# EAGLE library part MCP2562 (library SW_Communications)
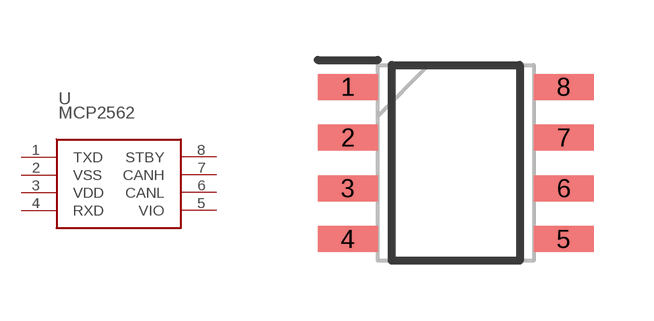
[diagram p5: symbol with the pads of SOIC-8; footprint SOIC-8]

Designator prefix U

## MCP2562 (CATEGORY: Communications; DESCRIPTION: 8Mbps CAN Flex. Data Transceiver SOIC8 Microchip MCP2562FD-E/SN, CAN Transceiver 2 Mbit/s, 5 Mbit/s, 8 Mbit/s 1-channel ISO 11898-2, ISO 11898-5, 8-Pin SOIC; MFGS: Microchip Technology; MPNS: MCP2562FD-E/SN; PACKAGE: SOIC-8; PART_NUMBER: MCP2562FD-E/SN; SW_PART_NUMBER: SW0000865)  [SOIC-8]
1  TXD
2  VSS
3  VDD
4  RXD
5  VIO
6  CANL
7  CANH
8  STBY

## Footprint SOIC-8 (pad centres in mm)
SOIC-N
smd 1.5 x 0.65: 1 -2.7,1.905; 2 -2.7,0.635; 3 -2.7,-0.635; 4 -2.7,-1.905; 5 2.7,-1.905; 6 2.7,-0.635; 7 2.7,0.635; 8 2.7,1.905